# Altium footprint library C-MAC Crystal Oscillator.PcbLib: 16 footprints
Each footprint in its own frame and in the unit in brackets; x right, y up, seen from the top. Pads: shape width x height; smd on the part's side, far side on the other; paste and mask are expansions set on the pad; w line width, h text height; cw(c..) or ccw(c..) is an arc to the next point about the centre after c.
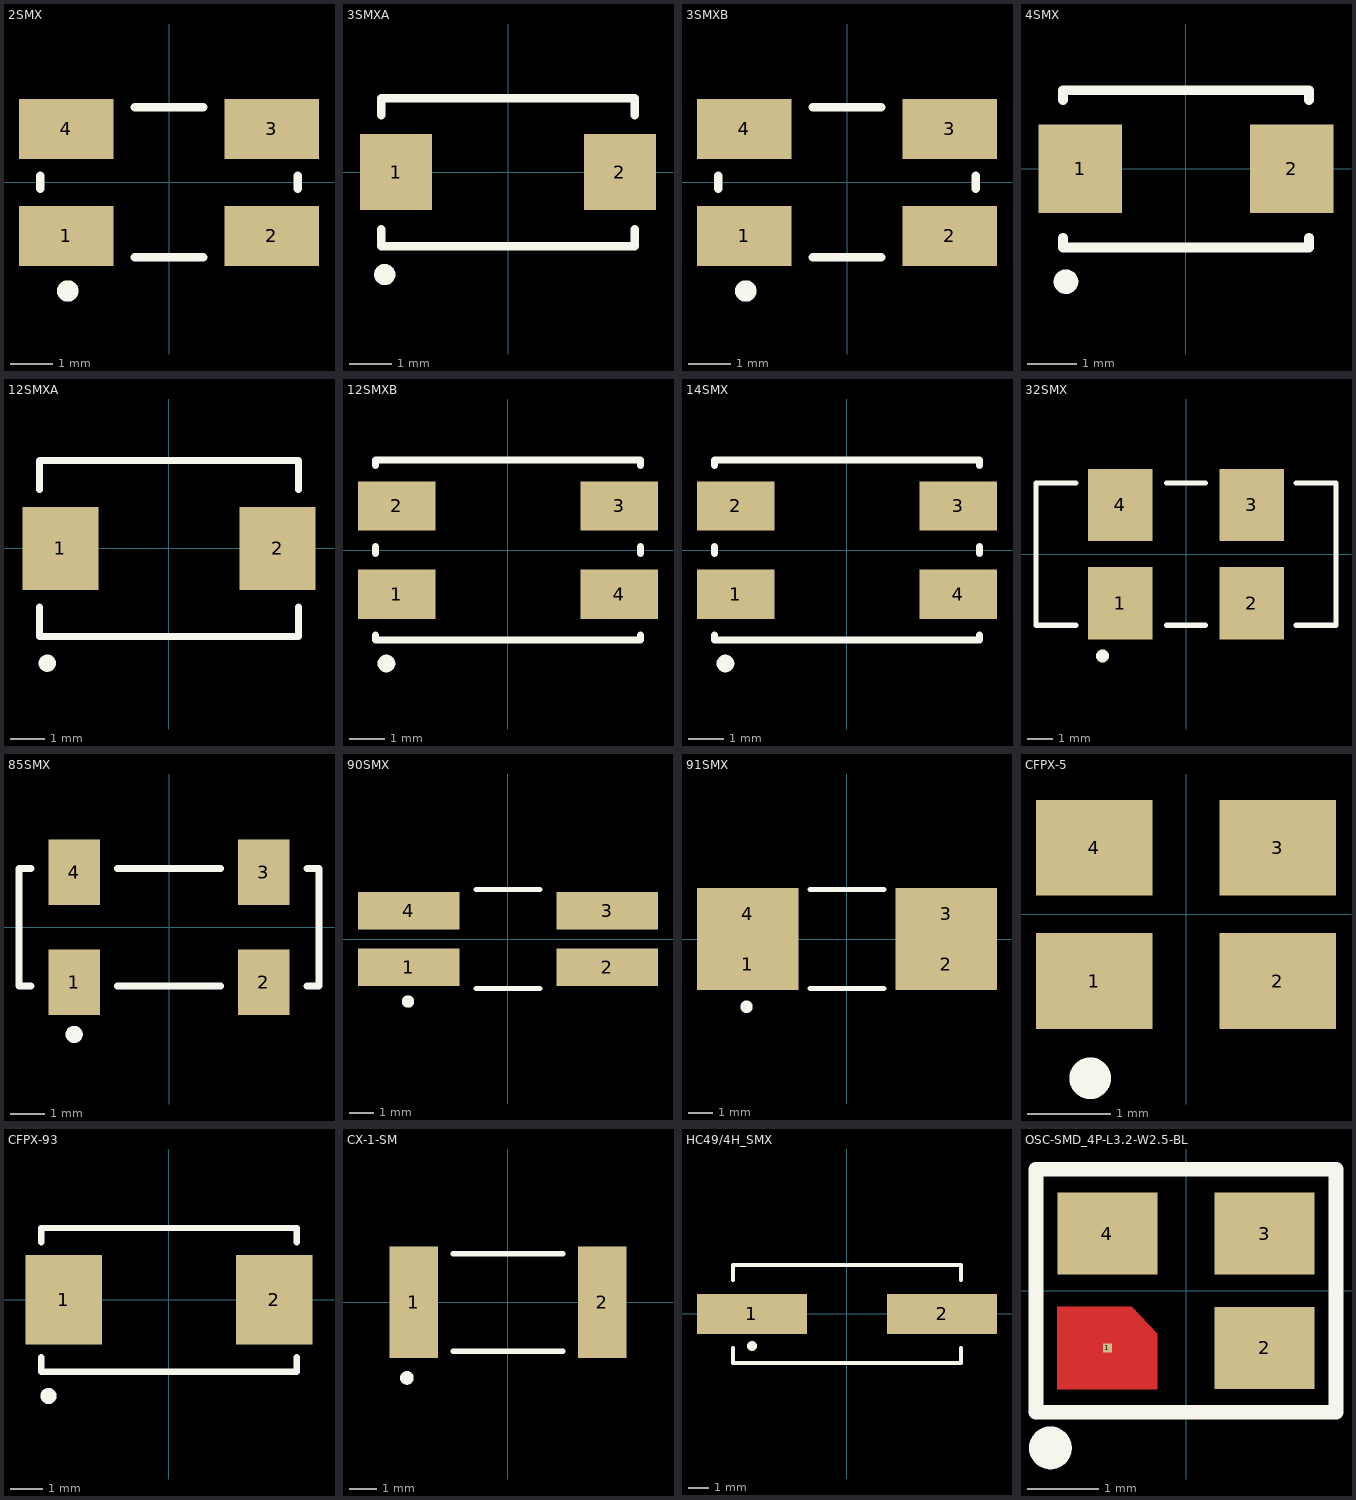
[diagram p0: the footprints below, top view; thin cyan lines are the x and y axes]

## 2SMX [mm] "Surface Mount Quartz Crystal; Body 6.0 x 3.5 mm (LxW)"
height 1
pads (4):
  rect 2.2x1.4 smd: 1(-2.4,-1.25) 2(2.4,-1.25) 3(2.4,1.25) 4(-2.4,1.25)
Top Overlay:
  circle w0.25: c-2.362,-2.534 r0.125
  lines w0.2: -3,-0.15 -3,0.15 ; -0.8,-1.75 0.8,-1.75 ; -0.8,1.75 0.8,1.75 ; 3,-0.15 3,0.15

## 3SMXA [mm] "Surface Mount Quartz Crystal; Body 6.2 x 3.7 mm (LxW max)"
height 1.3
pads (2):
  rect 1.7x1.8 smd: 1(-2.65,0) 2(2.65,0)
Top Overlay:
  circle w0.25: c-2.916,-2.424 r0.125
  lines w0.2: -3,-1.35 -3,-1.75 3,-1.75 3,-1.35 ; -3,1.35 -3,1.75 3,1.75 3,1.35

## 3SMXB [mm] "Surface Mount Quartz Crystal; Body 6.2 x 3.7 mm (LxW max)"
height 1.4
pads (4):
  rect 2.2x1.4 smd: 1(-2.4,-1.25) 2(2.4,-1.25) 3(2.4,1.25) 4(-2.4,1.25)
Top Overlay:
  circle w0.25: c-2.362,-2.534 r0.125
  lines w0.2: -3,-0.15 -3,0.15 ; -0.8,-1.75 0.8,-1.75 ; -0.8,1.75 0.8,1.75 ; 3,-0.15 3,0.15

## 4SMX [mm] "Surface Mount Quartz Crystal; Body 5.2 x 3.4 mm (LxW max)"
height 1
pads (2):
  rect 1.7x1.8 smd: 1(-2.15,0) 2(2.15,0)
Top Overlay:
  circle w0.25: c-2.441,-2.293 r0.125
  lines w0.2: -2.5,-1.4 -2.5,-1.6 2.5,-1.6 2.5,-1.4 ; -2.5,1.4 -2.5,1.6 2.5,1.6 2.5,1.4

## 12SMXA [mm] "Surface Mount Quartz Crystal; Body 7.5 x 5.1 mm (LxW max)"
height 1.8
pads (2):
  rect 2.2x2.4 smd: 1(-3.15,0) 2(3.15,0)
Top Overlay:
  circle w0.25: c-3.532,-3.33 r0.125
  lines w0.2: -3.75,-1.7 -3.75,-2.55 3.75,-2.55 3.75,-1.7 ; -3.75,1.7 -3.75,2.55 3.75,2.55 3.75,1.7

## 12SMXB [mm] "Surface Mount Quartz Crystal; Body 7.5 x 5.1 mm (LxW max)"
height 1.8
pads (4):
  rect 2.2x1.4 smd: 1(-3.15,-1.25) 2(-3.15,1.25) 3(3.15,1.25) 4(3.15,-1.25)
Top Overlay:
  circle w0.25: c-3.444,-3.213 r0.125
  lines w0.2: -3.75,-2.4 -3.75,-2.55 3.75,-2.55 3.75,-2.4 ; -3.75,-0.1 -3.75,0.1 ; -3.75,2.4 -3.75,2.55 3.75,2.55 3.75,2.4 ; 3.75,-0.1 3.75,0.1

## 14SMX [mm] "Surface Mount Quartz Crystal; Body 7.5 x 5.0 mm (LxW max)"
height 1
pads (4):
  rect 2.2x1.4 smd: 1(-3.15,-1.25) 2(-3.15,1.25) 3(3.15,1.25) 4(3.15,-1.25)
Top Overlay:
  circle w0.25: c-3.444,-3.213 r0.125
  lines w0.2: -3.75,-2.4 -3.75,-2.55 3.75,-2.55 3.75,-2.4 ; -3.75,-0.1 -3.75,0.1 ; -3.75,2.4 -3.75,2.55 3.75,2.55 3.75,2.4 ; 3.75,-0.1 3.75,0.1

## 32SMX [mm] "Surface Mount Quartz Crystal; Body 11.6 x 5.5 mm (LxW)"
height 2.2
pads (4):
  rect 2.5x2.8 smd: 1(-2.54,-1.9) 2(2.54,-1.9) 3(2.54,1.9) 4(-2.54,1.9)
Top Overlay:
  circle w0.25: c-3.231,-3.938 r0.125
  lines w0.2: -4.25,-2.75 -5.8,-2.75 -5.8,2.75 -4.25,2.75 ; -0.75,-2.75 0.75,-2.75 ; -0.75,2.75 0.75,2.75 ; 4.25,-2.75 5.8,-2.75 5.8,2.75 4.25,2.75

## 85SMX [mm] "Surface Mount Quartz Crystal; Body 8.7 x 3.8 (inc. leads) mm (LxW)"
height 2.5
pads (4):
  rect 1.5x1.9 smd: 1(-2.75,-1.6) 2(2.75,-1.6) 3(2.75,1.6) 4(-2.75,1.6)
Top Overlay:
  circle w0.25: c-2.75,-3.11 r0.125
  lines w0.2: -4,-1.7 -4.35,-1.7 -4.35,1.7 -4,1.7 ; -1.5,-1.7 1.5,-1.7 ; -1.5,1.7 1.5,1.7 ; 4,-1.7 4.35,-1.7 4.35,1.7 4,1.7

## 90SMX [mm] "Surface Mount Quartz Crystal; Body 10.4 x 4.0 mm (LxW)"
height 3.4
pads (4):
  rect 4.1x1.52 smd: 1(-4,-1.145) 2(4,-1.145) 3(4,1.145) 4(-4,1.145)
Top Overlay:
  circle w0.25: c-4.032,-2.522 r0.125
  lines w0.2: -1.3,-2 1.3,-2 ; -1.3,2 1.3,2

## 91SMX [mm] "Surface Mount Quartz Crystal; Body 10.4 x 4.0 mm (LxW)"
height 3.4
pads (4):
  rect 4.1x2.05 smd: 1(-4,-1.025) 2(4,-1.025) 3(4,1.025) 4(-4,1.025)
Top Overlay:
  circle w0.25: c-4.052,-2.733 r0.125
  lines w0.2: -1.5,-2 1.5,-2 ; -1.5,2 1.5,2

## CFPX-5 [mm] "Surface Mount Quartz Crystal; Body 3.4 x 2.7 mm (LxW max)"
height 1
pads (4):
  rect 1.4x1.15 smd: 1(-1.1,-0.8) 2(1.1,-0.8) 3(1.1,0.8) 4(-1.1,0.8)
Top Overlay:
  circle w0.25: c-1.15,-1.967 r0.125

## CFPX-93 [mm] "Surface Mount Quartz Crystal; Body 8.2 x 4.7 mm (LxW max)"
height 1.8
pads (2):
  rect 2.4x2.8 smd: 1(-3.3,0) 2(3.3,0)
Top Overlay:
  circle w0.25: c-3.775,-3.011 r0.125
  lines w0.2: -4,-1.8 -4,-2.25 4,-2.25 4,-1.8 ; -4,1.8 -4,2.25 4,2.25 4,1.8

## CX-1-SM [mm] "Surface Mount Quartz Crystal; Body 8.1 x 3.56 mm (LxW)"
height 2
pads (2):
  rect 1.78x4.06 smd: 1(-3.43,0) 2(3.43,0)
Top Overlay:
  circle w0.25: c-3.681,-2.747 r0.125
  lines w0.2: -2,-1.78 2,-1.78 ; -2,1.78 2,1.78

## HC49/4H_SMX [mm] "Surface Mount Quartz Crystal; Body 13.4 (inc. leads) x 4.9 mm (LxW max)"
height 4.3
pads (2):
  rect 5.5x2 smd: 1(-4.75,0) 2(4.75,0)
Top Overlay:
  circle w0.25: c-4.75,-1.6 r0.125
  lines w0.2: -5.7,-1.7 -5.7,-2.45 5.7,-2.45 5.7,-1.7 ; -5.7,1.7 -5.7,2.45 5.7,2.45 5.7,1.7

## OSC-SMD_4P-L3.2-W2.5-BL [mm]
pads (4):
  rect 0.127x0.127 smd: 1(-1.1,-0.8)
  rect 1.4x1.15 smd: 2(1.1,-0.8) 3(1.1,0.8) 4(-1.1,0.8)
Top Layer:
  region: -1.8,-0.225 -0.762,-0.225 -0.4,-0.604 -0.4,-1.375 -1.8,-1.375
Top Overlay:
  lines w0.203: -2.1,-1.7 2.1,-1.7 2.1,1.7 -2.1,1.7 -2.1,-1.7
  lines w0.3: -1.9,-2.05 ccw(c-1.899,-2.2) -1.897,-2.05
Top Paste:
  region: -1.8,-0.225 -0.762,-0.225 -0.4,-0.604 -0.4,-1.375 -1.8,-1.375
Top Solder:
  region: -1.8,-0.225 -0.762,-0.225 -0.4,-0.604 -0.4,-1.375 -1.8,-1.375